# EAGLE library part SOCKET_1.27_2X25 (library added_parts)
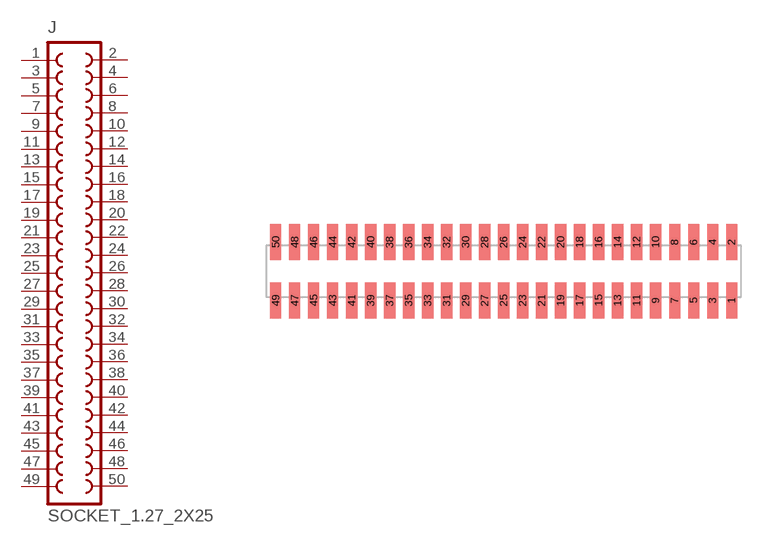
[diagram p41: symbol with the pads of SOCKET_1.27MM_2X25; footprint SOCKET_1.27MM_2X25]

Designator prefix J

## SOCKET_1.27_2X25  [SOCKET_1.27MM_2X25]
1  1  pas
2  2  pas
3  3  pas
4  4  pas
5  5  pas
6  6  pas
7  7  pas
8  8  pas
9  9  pas
10  10  pas
11  11  pas
12  12  pas
13  13  pas
14  14  pas
15  15  pas
16  16  pas
17  17  pas
18  18  pas
19  19  pas
20  20  pas
21  21  pas
22  22  pas
23  23  pas
24  24  pas
25  25  pas
26  26  pas
27  27  pas
28  28  pas
29  29  pas
30  30  pas
31  31  pas
32  32  pas
33  33  pas
34  34  pas
35  35  pas
36  36  pas
37  37  pas
38  38  pas
39  39  pas
40  40  pas
41  41  pas
42  42  pas
43  43  pas
44  44  pas
45  45  pas
46  46  pas
47  47  pas
48  48  pas
49  49  pas
50  50  pas

## Footprint SOCKET_1.27MM_2X25 (pad centres in mm)
smd 0.74 x 2.4: 1 15.24,-1.95; 2 15.24,1.95; 3 13.97,-1.95; 4 13.97,1.95; 5 12.7,-1.95; 6 12.7,1.95; 7 11.43,-1.95; 8 11.43,1.95; 9 10.16,-1.95; 10 10.16,1.95; 11 8.89,-1.95; 12 8.89,1.95; 13 7.62,-1.95; 14 7.62,1.95; 15 6.35,-1.95; 16 6.35,1.95; 17 5.08,-1.95; 18 5.08,1.95; 19 3.81,-1.95; 20 3.81,1.95; 21 2.54,-1.95; 22 2.54,1.95; 23 1.27,-1.95; 24 1.27,1.95; 25 0,-1.95; 26 0,1.95; 27 -1.27,-1.95; 28 -1.27,1.95; 29 -2.54,-1.95; 30 -2.54,1.95; 31 -3.81,-1.95; 32 -3.81,1.95; 33 -5.08,-1.95; 34 -5.08,1.95; 35 -6.35,-1.95; 36 -6.35,1.95; 37 -7.62,-1.95; 38 -7.62,1.95; 39 -8.89,-1.95; 40 -8.89,1.95; 41 -10.16,-1.95; 42 -10.16,1.95; 43 -11.43,-1.95; 44 -11.43,1.95; 45 -12.7,-1.95; 46 -12.7,1.95; 47 -13.97,-1.95; 48 -13.97,1.95; 49 -15.24,-1.95; 50 -15.24,1.95